# EAGLE library part MPU9250 (library SponbergResearchLab)
MPU Inertial Measurement Unit Measures acceleration, angular velocity, and magnetometer information
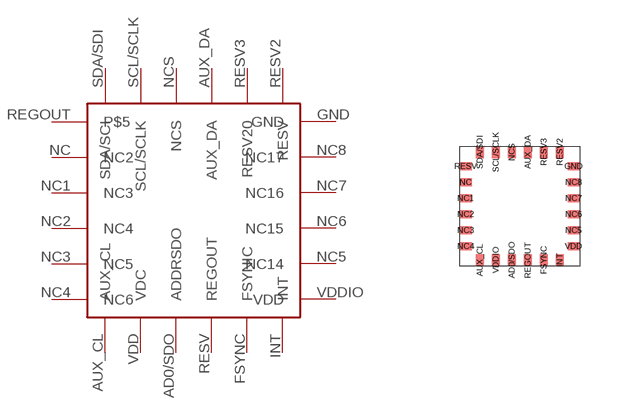
[diagram p0: symbol with the pads of MPU9250; footprint MPU9250]

Designator prefix -

## MPU9250  [MPU9250]
AD0/SDO  ADDRSDO
AUX_CL  AUX_CL
AUX_DA  AUX_DA
FSYNC  FSYNIC
GND  GND
INT  INT
NC  NC2
NC1  NC3
NC2  NC4
NC3  NC5
NC4  NC6
NC5  NC14
NC6  NC15
NC7  NC16
NC8  NC17
NCS  NCS
REGOUT  P$5
RESV  REGOUT
RESV2  RESV
RESV3  RESV20
SCL/SCLK  SCL/SCLK
SDA/SDI  SDA/SCI
VDD  VDC
VDDIO  VDD

## Footprint MPU9250 (pad centres in mm)
smd 0.2 x 0.3: AD0/SDO -0.2,-1.35; AUX_CL -1,-1.35; AUX_DA 0.2,1.35; FSYNC 0.6,-1.35; INT 1,-1.35; NCS -0.2,1.35; REGOUT 0.2,-1.35; RESV2 1,1.35; RESV3 0.6,1.35; SCL/SCLK -0.6,1.35; SDA/SDI -1,1.35; VDDIO -0.6,-1.35
smd 0.3 x 0.2: GND 1.35,1; NC -1.35,0.6; NC1 -1.35,0.2; NC2 -1.35,-0.2; NC3 -1.35,-0.6; NC4 -1.35,-1; NC5 1.35,-0.6; NC6 1.35,-0.2; NC7 1.35,0.2; NC8 1.35,0.6; RESV -1.35,1; VDD 1.35,-1